# EAGLE library part IC_TSSOP_WB14 (library solderlessPCB v164)
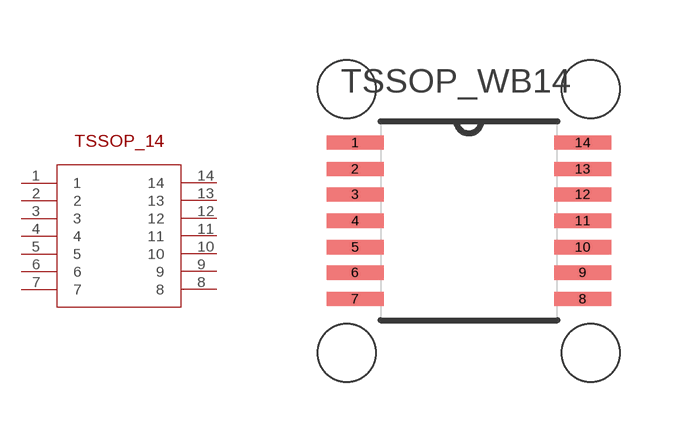
[diagram p0: symbol with the pads of TSSOP_WB14; footprint TSSOP_WB14]

Designator prefix -

## IC_TSSOP_WB14  [TSSOP_WB14]
1  1
2  2
3  3
4  4
5  5
6  6
7  7
8  8
9  9
10  10
11  11
12  12
13  13
14  14

## Footprint TSSOP_WB14 (pad centres in mm)
smd 1.422 x 0.356: 1 -2.845,1.956; 2 -2.845,1.295; 3 -2.845,0.66; 4 -2.845,0; 5 -2.845,-0.66; 6 -2.845,-1.295; 7 -2.845,-1.956; 8 2.845,-1.956; 9 2.845,-1.295; 10 2.845,-0.66; 11 2.845,0; 12 2.845,0.66; 13 2.845,1.295; 14 2.845,1.956
hole 1.45 at -3.048,3.302
hole 1.45 at 3.048,3.302
hole 1.45 at 3.048,-3.302
hole 1.45 at -3.048,-3.302